# Altium schematic symbol library E2S-E2S-027-V3.SchLib: 2 symbols
Pins are listed as number, name and electrical type; pins without a type are passive.

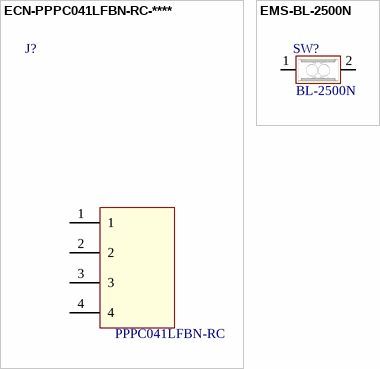
[diagram p0: symbols ECN-PPPC041LFBN-RC-**** to EMS-BL-2500N]

## ECN-PPPC041LFBN-RC-****
designator J?, comment value PPPC041LFBN-RC  (hidden comment: CONN HDR 4POS 0.1 GOLD PCB)
Manufacturer: Sullins Connector Solutions; Internal Part Number: ECN-PPPC041LFBN-RC-****; Vendor Part Number: S7037-ND; 1st Auxiliary Field: 8.51mm; 3rd Auxiliary Field: ROHS3 Compliant; Component Height (mm): 3.20mm; Temp Co: -40°C ~ 105°C; Vendor Name: Digi-Key; 2nd Auxiliary Field: *; 4th Auxiliary Field: *; Part Type: CONN HDR 4POS 0.1 GOLD PCB; Manufacturer Part Number: PPPC041LFBN-RC
footprint SULLINS_PPPC041LFBN-RC (4 Position Header Connector  Through Hole)
pins: 1, 2, 3, 4

## EMS-BL-2500N
designator SW?, comment value BL-2500N  (hidden comment: Vibrator sensor switch)
Internal Part Number: EMS-BL-2500N; 1st Auxiliary Field: >10MA; 2nd Auxiliary Field: <10ohm; 3rd Auxiliary Field: >10Mohm; Component Height (mm): 2.50mm; Temp Co: -25 to 70C; 4th Auxiliary Field: 2,00,000 cycles; Vendor Name: Alibaba; Manufacturer: *; Part Type: Vibrator sensor switch; Vendor Part Number: BL-2500N; Manufacturer Part Number: BL-2500N
footprint BL-2500N
pins: 1, 2